# Altium schematic symbol library MICROPHONE.SchLib: 1 symbol
Pins are listed as number, name and electrical type; pins without a type are passive.

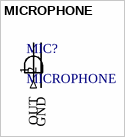
[diagram p0: symbol MICROPHONE]

## MICROPHONE
designator MIC?
Microphone symbol
pins: 1 OUT (out), 2 GND (power)